# Altium integrated library Capacitor - Aluminium TH.IntLib: 4591 symbols (part 2 of 68)
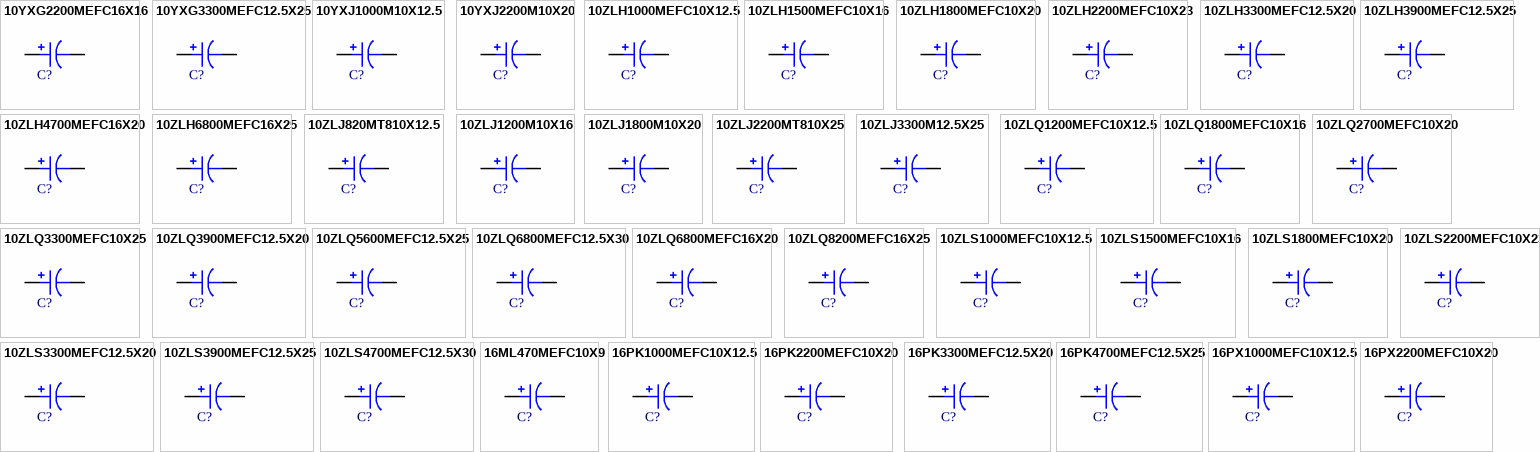
[diagram p115: symbols 10YXG2200MEFC16X16 to 16PX2200MEFC10X20]

## 10ZLS1500MEFC10X16
designator C?, comment 1500uF  (value not drawn)
CAP ALUM 1500UF 20% 10V RADIAL; Part Number: 10ZLS1500MEFC10X16; Manufacturer: Rubycon; TemperatureRange: -40C ~ 105C; Type: Polar; Ripple Current: 990mA; Impedance: 32 mOhm; Value: 1500uF; PartId: 25282; Supplier 1: Digi-Key; Supplier Part Number 1: 1189-2563-ND; ComponentLink1Description: Datasheet; ComponentLink1URL: http://www.rubycon.co.jp/en/catalog/e_pdfs/aluminum/e_zls.pdf; ComponentLink2Description: Digi-Key Listing; ComponentLink2URL: https://www.digikey.com/product-detail/en/rubycon/10ZLS1500MEFC10X16/1189-2563-ND/4977110; Tolerance: 20%; Voltage: 10V; Price: 0.62; Device Package: Radial, Can, 10mm
footprint CAP AL TH D10 L5 H17.5
pins: 1, 2

## 10ZLS1800MEFC10X20
designator C?, comment 1800uF  (value not drawn)
CAP ALUM 1800UF 20% 10V RADIAL; Part Number: 10ZLS1800MEFC10X20; Manufacturer: Rubycon; TemperatureRange: -40C ~ 105C; Type: Polar; Ripple Current: 1.176A; Impedance: 20 mOhm; Value: 1800uF; PartId: 25900; Supplier 1: Digi-Key; Supplier Part Number 1: 1189-2564-ND; ComponentLink1Description: Datasheet; ComponentLink1URL: http://www.rubycon.co.jp/en/catalog/e_pdfs/aluminum/e_zls.pdf; ComponentLink2Description: Digi-Key Listing; ComponentLink2URL: https://www.digikey.com/product-detail/en/rubycon/10ZLS1800MEFC10X20/1189-2564-ND/4977111; Tolerance: 20%; Voltage: 10V; Price: 0.68; Device Package: Radial, Can, 10mm
footprint CAP AL TH D10 L5 H22
pins: 1, 2

## 10ZLS2200MEFC10X23
designator C?, comment 2200uF  (value not drawn)
CAP ALUM 2200UF 20% 10V RADIAL; Part Number: 10ZLS2200MEFC10X23; Manufacturer: Rubycon; TemperatureRange: -40C ~ 105C; Type: Polar; Ripple Current: 1.575A; Impedance: 18 mOhm; Value: 2200uF; PartId: 26073; Supplier 1: Digi-Key; Supplier Part Number 1: 1189-2565-ND; ComponentLink1Description: Datasheet; ComponentLink1URL: http://www.rubycon.co.jp/en/catalog/e_pdfs/aluminum/e_zls.pdf; ComponentLink2Description: Digi-Key Listing; ComponentLink2URL: https://www.digikey.com/product-detail/en/rubycon/10ZLS2200MEFC10X23/1189-2565-ND/4977112; Tolerance: 20%; Voltage: 10V; Price: 0.7; Device Package: Radial, Can, 10mm
footprint CAP AL TH D10 L5 H30
pins: 1, 2

## 10ZLS3300MEFC12.5X20
designator C?, comment 3300uF  (value not drawn)
CAP ALUM 3300UF 20% 10V RADIAL; Part Number: 10ZLS3300MEFC12.5X20; Manufacturer: Rubycon; TemperatureRange: -40C ~ 105C; Type: Polar; Ripple Current: 1.736A; Impedance: 17 mOhm; Value: 3300uF; PartId: 23369; Supplier 1: Digi-Key; Supplier Part Number 1: 1189-2566-ND; ComponentLink1Description: Datasheet; ComponentLink1URL: http://www.rubycon.co.jp/en/catalog/e_pdfs/aluminum/e_zls.pdf; ComponentLink2Description: Digi-Key Listing; ComponentLink2URL: https://www.digikey.com/product-detail/en/rubycon/10ZLS3300MEFC12.5X20/1189-2566-ND/4977113; Tolerance: 20%; Voltage: 10V; Price: 0.89; Device Package: Radial, Can, 12.5mm
footprint CAP AL TH D12.5 L5 H22
pins: 1, 2

## 10ZLS3900MEFC12.5X25
designator C?, comment 3900uF  (value not drawn)
CAP ALUM 3900UF 20% 10V RADIAL; Part Number: 10ZLS3900MEFC12.5X25; Manufacturer: Rubycon; TemperatureRange: -40C ~ 105C; Type: Polar; Ripple Current: 2.03A; Impedance: 15 mOhm; Value: 3900uF; PartId: 23969; Supplier 1: Digi-Key; Supplier Part Number 1: 1189-2567-ND; ComponentLink1Description: Datasheet; ComponentLink1URL: http://www.rubycon.co.jp/en/catalog/e_pdfs/aluminum/e_zls.pdf; ComponentLink2Description: Digi-Key Listing; ComponentLink2URL: https://www.digikey.com/product-detail/en/rubycon/10ZLS3900MEFC12.5X25/1189-2567-ND/4977114; Tolerance: 20%; Voltage: 10V; Price: 1; Device Package: Radial, Can, 12.5mm
footprint CAP AL TH D12.5 L5 H27
pins: 1, 2

## 10ZLS4700MEFC12.5X30
designator C?, comment 4700uF  (value not drawn)
CAP ALUM 4700UF 20% 10V RADIAL; Part Number: 10ZLS4700MEFC12.5X30; Manufacturer: Rubycon; TemperatureRange: -40C ~ 105C; Type: Polar; Ripple Current: 2.415A; Impedance: 13 mOhm; Value: 4700uF; PartId: 24293; Supplier 1: Digi-Key; Supplier Part Number 1: 1189-2568-ND; ComponentLink1Description: Datasheet; ComponentLink1URL: http://www.rubycon.co.jp/en/catalog/e_pdfs/aluminum/e_zls.pdf; ComponentLink2Description: Digi-Key Listing; ComponentLink2URL: https://www.digikey.com/product-detail/en/rubycon/10ZLS4700MEFC12.5X30/1189-2568-ND/4977115; Tolerance: 20%; Voltage: 10V; Price: 1.13; Device Package: Radial, Can, 12.5mm
footprint CAP AL TH D12.5 L5 H35.5
pins: 1, 2

## 16ML470MEFC10X9
designator C?, comment 470uF  (value not drawn)
CAP ALUM 470UF 20% 16V RADIAL; Part Number: 16ML470MEFC10X9; Manufacturer: Rubycon; TemperatureRange: -40C ~ 105C; Type: Polar; Ripple Current: 460mA @ 120Hz; Value: 470uF; PartId: 24459; Supplier 1: Digi-Key; Supplier Part Number 1: 1189-3678-ND; ComponentLink1Description: Datasheet; ComponentLink1URL: http://www.rubycon.co.jp/en/catalog/e_pdfs/aluminum/e_ml.pdf; ComponentLink2Description: Digi-Key Listing; ComponentLink2URL: https://www.digikey.com/product-detail/en/rubycon/16ML470MEFC10X9/1189-3678-ND/3563506; Tolerance: 20%; Voltage: 16V; Price: 0.51; Device Package: Radial, Can, 10mm
footprint CAP AL TH D10 L5 H12.5
pins: 1, 2

## 16PK1000MEFC10X12.5
designator C?, comment 1000uF  (value not drawn)
CAP ALUM 1000UF 20% 16V RADIAL; Part Number: 16PK1000MEFC10X12.5; Manufacturer: Rubycon; TemperatureRange: -40C ~ 85C; Ripple Current: 720mA; Value: 1000uF; PartId: 24849; Supplier 1: Digi-Key; Supplier Part Number 1: 1189-1719-ND; ComponentLink1Description: Datasheet; ComponentLink1URL: http://www.rubycon.co.jp/en/catalog/e_pdfs/aluminum/e_pk.pdf; ComponentLink2Description: Digi-Key Listing; ComponentLink2URL: https://www.digikey.com/product-detail/en/rubycon/16PK1000MEFC10X12.5/1189-1719-ND/3563556; Tolerance: 20%; Voltage: 16V; Price: 0.47; Device Package: Radial, Can, 10mm
footprint CAP AL TH D10 L5 H14.5
pins: 1, 2

## 16PK2200MEFC10X20
designator C?, comment 2200uF  (value not drawn)
CAP ALUM 2200UF 20% 16V RADIAL; Part Number: 16PK2200MEFC10X20; Manufacturer: Rubycon; TemperatureRange: -40C ~ 85C; Ripple Current: 1.32A; Value: 2200uF; PartId: 25596; Supplier 1: Digi-Key; Supplier Part Number 1: 1189-1118-ND; ComponentLink1Description: Datasheet; ComponentLink1URL: http://www.rubycon.co.jp/en/catalog/e_pdfs/aluminum/e_pk.pdf; ComponentLink2Description: Digi-Key Listing; ComponentLink2URL: https://www.digikey.com/product-detail/en/rubycon/16PK2200MEFC10X20/1189-1118-ND/3134077; Tolerance: 20%; Voltage: 16V; Price: 0.68; Device Package: Radial, Can, 10mm
footprint CAP AL TH D10 L5 H22
pins: 1, 2

## 16PK3300MEFC12.5X20
designator C?, comment 3300uF  (value not drawn)
CAP ALUM 3300UF 20% 16V RADIAL; Part Number: 16PK3300MEFC12.5X20; Manufacturer: Rubycon; TemperatureRange: -40C ~ 85C; Ripple Current: 1.6A; Value: 3300uF; PartId: 23387; Supplier 1: Digi-Key; Supplier Part Number 1: 1189-1720-ND; ComponentLink1Description: Datasheet; ComponentLink1URL: http://www.rubycon.co.jp/en/catalog/e_pdfs/aluminum/e_pk.pdf; ComponentLink2Description: Digi-Key Listing; ComponentLink2URL: https://www.digikey.com/product-detail/en/rubycon/16PK3300MEFC12.5X20/1189-1720-ND/3564005; Tolerance: 20%; Voltage: 16V; Price: 0.94; Device Package: Radial, Can, 12.5mm
footprint CAP AL TH D12.5 L5 H22
pins: 1, 2

## 16PK4700MEFC12.5X25
designator C?, comment 4700uF  (value not drawn)
CAP ALUM 4700UF 20% 16V RADIAL; Part Number: 16PK4700MEFC12.5X25; Manufacturer: Rubycon; TemperatureRange: -40C ~ 85C; Ripple Current: 2.05A; Value: 4700uF; PartId: 23671; Supplier 1: Digi-Key; Supplier Part Number 1: 1189-1123-ND; ComponentLink1Description: Datasheet; ComponentLink1URL: http://www.rubycon.co.jp/en/catalog/e_pdfs/aluminum/e_pk.pdf; ComponentLink2Description: Digi-Key Listing; ComponentLink2URL: https://www.digikey.com/product-detail/en/rubycon/16PK4700MEFC12.5X25/1189-1123-ND/3134081; Tolerance: 20%; Voltage: 16V; Price: 0.99; Device Package: Radial, Can, 12.5mm
footprint CAP AL TH D12.5 L5 H26.5
pins: 1, 2

## 16PX1000MEFC10X12.5
designator C?, comment 1000uF  (value not drawn)
CAP ALUM 1000UF 20% 16V RADIAL; Part Number: 16PX1000MEFC10X12.5; Manufacturer: Rubycon; TemperatureRange: -55C ~ 105C; Type: Polar; Ripple Current: 640mA; Value: 1000uF; PartId: 24759; Supplier 1: Digi-Key; Supplier Part Number 1: 1189-2188-ND; ComponentLink1Description: Datasheet; ComponentLink1URL: http://www.rubycon.co.jp/en/catalog/e_pdfs/aluminum/e_px.pdf; ComponentLink2Description: Digi-Key Listing; ComponentLink2URL: https://www.digikey.com/product-detail/en/rubycon/16PX1000MEFC10X12.5/1189-2188-ND/3563561; Tolerance: 20%; Voltage: 16V; Price: 0.43; Device Package: Radial, Can, 10mm
footprint CAP AL TH D10 L5 H14.5
pins: 1, 2

## 16PX2200MEFC10X20
designator C?, comment 2200uF  (value not drawn)
CAP ALUM 2200UF 20% 16V RADIAL; Part Number: 16PX2200MEFC10X20; Manufacturer: Rubycon; TemperatureRange: -55C ~ 105C; Type: Polar; Ripple Current: 1.05A; Value: 2200uF; PartId: 25581; Supplier 1: Digi-Key; Supplier Part Number 1: 1189-1128-ND; ComponentLink1Description: Datasheet; ComponentLink1URL: http://www.rubycon.co.jp/en/catalog/e_pdfs/aluminum/e_px.pdf; ComponentLink2Description: Digi-Key Listing; ComponentLink2URL: https://www.digikey.com/product-detail/en/rubycon/16PX2200MEFC10X20/1189-1128-ND/3134086; Tolerance: 20%; Voltage: 16V; Price: 0.67; Device Package: Radial, Can, 10mm
footprint CAP AL TH D10 L5 H22
pins: 1, 2

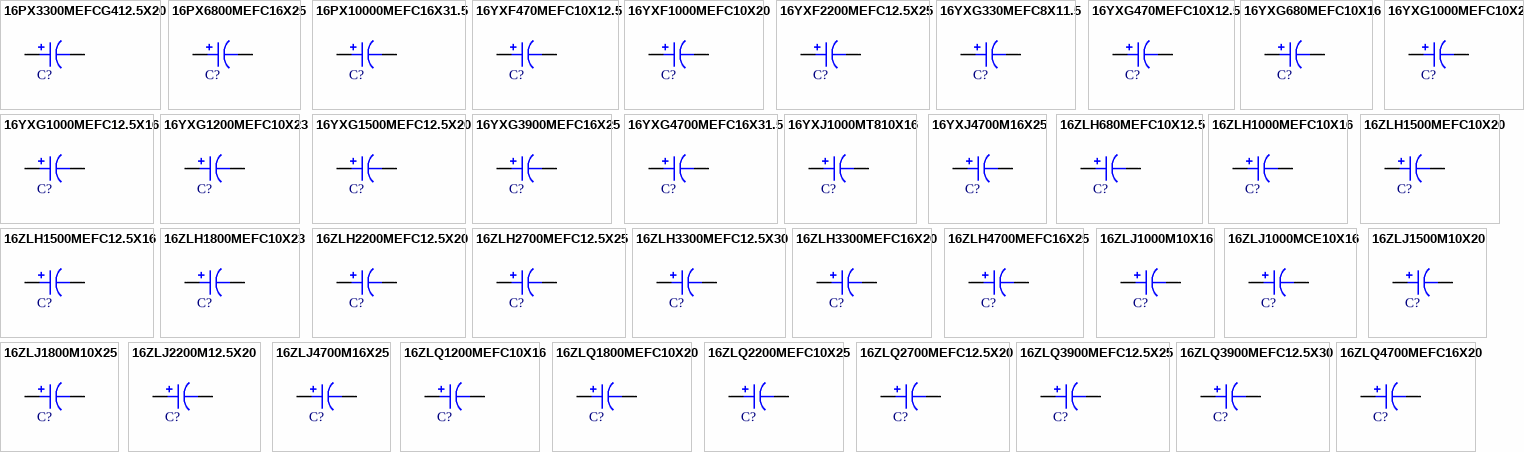
[diagram p2: symbols 16PX3300MEFCG412.5X20 to 16ZLQ4700MEFC16X20]

## 16PX3300MEFCG412.5X20
designator C?, comment 3300uF  (value not drawn)
CAP ALUM 3300UF 20% 16V RADIAL; Part Number: 16PX3300MEFCG412.5X20; Manufacturer: Rubycon; TemperatureRange: -55C ~ 105C; Type: Polar; Ripple Current: 1.3A; Value: 3300uF; PartId: 22975; Supplier 1: Digi-Key; Supplier Part Number 1: 1189-1534-1-ND; ComponentLink1Description: Datasheet; ComponentLink1URL: http://www.rubycon.co.jp/en/catalog/e_pdfs/aluminum/e_px.pdf; ComponentLink2Description: Digi-Key Listing; ComponentLink2URL: https://www.digikey.com/product-detail/en/rubycon/16PX3300MEFCG412.5X20/1189-1534-1-ND/3134490; Tolerance: 20%; Voltage: 16V; Price: 0; Device Package: Radial, Can, 12.5mm
footprint CAP AL TH D12.5 L5 H21.5
pins: 1, 2

## 16PX6800MEFC16X25
designator C?, comment 6800uF  (value not drawn)
CAP ALUM 6800UF 20% 16V RADIAL; Part Number: 16PX6800MEFC16X25; Manufacturer: Rubycon; TemperatureRange: -55C ~ 105C; Type: Polar; Ripple Current: 1.9A; Value: 6800uF; PartId: 26670; Supplier 1: Digi-Key; Supplier Part Number 1: 1189-1721-ND; ComponentLink1Description: Datasheet; ComponentLink1URL: http://www.rubycon.co.jp/en/catalog/e_pdfs/aluminum/e_px.pdf; ComponentLink2Description: Digi-Key Listing; ComponentLink2URL: https://www.digikey.com/product-detail/en/rubycon/16PX6800MEFC16X25/1189-1721-ND/3564437; Tolerance: 20%; Voltage: 16V; Price: 1.68; Device Package: Radial, Can, 16mm
footprint CAP AL TH D16 L7.5 H26.5
pins: 1, 2

## 16PX10000MEFC16X31.5
designator C?, comment 10000uF  (value not drawn)
CAP ALUM 10000UF 20% 16V RADIAL; Part Number: 16PX10000MEFC16X31.5; Manufacturer: Rubycon; TemperatureRange: -55C ~ 105C; Type: Polar; Ripple Current: 1.95A; Value: 10000uF; PartId: 27145; Supplier 1: Digi-Key; Supplier Part Number 1: 1189-1125-ND; ComponentLink1Description: Datasheet; ComponentLink1URL: http://www.rubycon.co.jp/en/catalog/e_pdfs/aluminum/e_px.pdf; ComponentLink2Description: Digi-Key Listing; ComponentLink2URL: https://www.digikey.com/product-detail/en/rubycon/16PX10000MEFC16X31.5/1189-1125-ND/3134083; Tolerance: 20%; Voltage: 16V; Price: 1.82; Device Package: Radial, Can, 16mm
footprint CAP AL TH D16 L7.5 H33.5
pins: 1, 2

## 16YXF470MEFC10X12.5
designator C?, comment 470uF  (value not drawn)
CAP ALUM 470UF 20% 16V RADIAL; Part Number: 16YXF470MEFC10X12.5; Manufacturer: Rubycon; TemperatureRange: -40C ~ 105C; Type: Polar; Ripple Current: 435mA; Impedance: 160 mOhm; Value: 470uF; PartId: 24800; Supplier 1: Digi-Key; Supplier Part Number 1: 1189-1886-ND; ComponentLink1Description: Datasheet; ComponentLink1URL: http://www.rubycon.co.jp/en/catalog/e_pdfs/aluminum/e_yxf.pdf; ComponentLink2Description: Digi-Key Listing; ComponentLink2URL: https://www.digikey.com/product-detail/en/rubycon/16YXF470MEFC10X12.5/1189-1886-ND/3563577; Tolerance: 20%; Voltage: 16V; Price: 0.45; Device Package: Radial, Can, 10mm
footprint CAP AL TH D10 L5 H14.5
pins: 1, 2

## 16YXF1000MEFC10X20
designator C?, comment 1000uF  (value not drawn)
CAP ALUM 1000UF 20% 16V RADIAL; Part Number: 16YXF1000MEFC10X20; Manufacturer: Rubycon; TemperatureRange: -40C ~ 105C; Type: Polar; Ripple Current: 787.5mA; Impedance: 78 mOhm; Value: 1000uF; PartId: 25870; Supplier 1: Digi-Key; Supplier Part Number 1: 1189-1896-ND; ComponentLink1Description: Datasheet; ComponentLink1URL: http://www.rubycon.co.jp/en/catalog/e_pdfs/aluminum/e_yxf.pdf; ComponentLink2Description: Digi-Key Listing; ComponentLink2URL: https://www.digikey.com/product-detail/en/rubycon/16YXF1000MEFC10X20/1189-1896-ND/3563785; Tolerance: 20%; Voltage: 16V; Price: 0.63; Device Package: Radial, Can, 10mm
footprint CAP AL TH D10 L5 H22
pins: 1, 2

## 16YXF2200MEFC12.5X25
designator C?, comment 2200uF  (value not drawn)
CAP ALUM 2200UF 20% 16V RADIAL; Part Number: 16YXF2200MEFC12.5X25; Manufacturer: Rubycon; TemperatureRange: -40C ~ 105C; Type: Polar; Ripple Current: 1.32A @ 120Hz; Impedance: 48 mOhm; Value: 2200uF; PartId: 23897; Supplier 1: Digi-Key; Supplier Part Number 1: 1189-3679-ND; ComponentLink1Description: Datasheet; ComponentLink1URL: http://www.rubycon.co.jp/en/catalog/e_pdfs/aluminum/e_yxf.pdf; ComponentLink2Description: Digi-Key Listing; ComponentLink2URL: https://www.digikey.com/product-detail/en/rubycon/16YXF2200MEFC12.5X25/1189-3679-ND/3564113; Tolerance: 20%; Voltage: 16V; Price: 0.88; Device Package: Radial, Can, 12.5mm
footprint CAP AL TH D12.5 L5 H27
pins: 1, 2

## 16YXG330MEFC8X11.5
designator C?, comment 330uF  (value not drawn)
CAP ALUM 330UF 20% 16V RADIAL; Part Number: 16YXG330MEFC8X11.5; Manufacturer: Rubycon; TemperatureRange: -40C ~ 105C; Type: Polar; Ripple Current: 352mA @ 120Hz; Impedance: 130 mOhm; Value: 330uF; PartId: 26206; Supplier 1: Digi-Key; Supplier Part Number 1: 1189-1724-ND; ComponentLink1Description: Datasheet; ComponentLink1URL: http://www.rubycon.co.jp/en/catalog/e_pdfs/aluminum/e_yxg.pdf; ComponentLink2Description: Digi-Key Listing; ComponentLink2URL: https://www.digikey.com/product-detail/en/rubycon/16YXG330MEFC8X11.5/1189-1724-ND/3563342; Tolerance: 20%; Voltage: 16V; Price: 0.38; Device Package: Radial, Can, 16mm
footprint CAP AL TH D16 L7.5 H16.5
pins: 1, 2

## 16YXG470MEFC10X12.5
designator C?, comment 470uF  (value not drawn)
CAP ALUM 470UF 20% 16V RADIAL; Part Number: 16YXG470MEFC10X12.5; Manufacturer: Rubycon; TemperatureRange: -40C ~ 105C; Type: Polar; Ripple Current: 475.8mA @ 120Hz; Impedance: 80 mOhm; Value: 470uF; PartId: 24926; Supplier 1: Digi-Key; Supplier Part Number 1: 1189-2192-ND; ComponentLink1Description: Datasheet; ComponentLink1URL: http://www.rubycon.co.jp/en/catalog/e_pdfs/aluminum/e_yxg.pdf; ComponentLink2Description: Digi-Key Listing; ComponentLink2URL: https://www.digikey.com/product-detail/en/rubycon/16YXG470MEFC10X12.5/1189-2192-ND/3563588; Tolerance: 20%; Voltage: 16V; Price: 0.5; Device Package: Radial, Can, 10mm
footprint CAP AL TH D10 L5 H14.5
pins: 1, 2

## 16YXG680MEFC10X16
designator C?, comment 680uF  (value not drawn)
CAP ALUM 680UF 20% 16V RADIAL; Part Number: 16YXG680MEFC10X16; Manufacturer: Rubycon; TemperatureRange: -40C ~ 105C; Type: Polar; Ripple Current: 665.5mA @ 120Hz; Impedance: 60 mOhm; Value: 680uF; PartId: 25250; Supplier 1: Digi-Key; Supplier Part Number 1: 1189-2193-ND; ComponentLink1Description: Datasheet; ComponentLink1URL: http://www.rubycon.co.jp/en/catalog/e_pdfs/aluminum/e_yxg.pdf; ComponentLink2Description: Digi-Key Listing; ComponentLink2URL: https://www.digikey.com/product-detail/en/rubycon/16YXG680MEFC10X16/1189-2193-ND/3563694; Tolerance: 20%; Voltage: 16V; Price: 0.57; Device Package: Radial, Can, 10mm
footprint CAP AL TH D10 L5 H17.5
pins: 1, 2

## 16YXG1000MEFC10X20
designator C?, comment 1000uF  (value not drawn)
CAP ALUM 1000UF 20% 16V RADIAL; Part Number: 16YXG1000MEFC10X20; Manufacturer: Rubycon; TemperatureRange: -40C ~ 105C; Type: Polar; Ripple Current: 840mA @ 120Hz; Impedance: 46 mOhm; Value: 1000uF; PartId: 25549; Supplier 1: Digi-Key; Supplier Part Number 1: 1189-1722-ND; ComponentLink1Description: Datasheet; ComponentLink1URL: http://www.rubycon.co.jp/en/catalog/e_pdfs/aluminum/e_yxg.pdf; ComponentLink2Description: Digi-Key Listing; ComponentLink2URL: https://www.digikey.com/product-detail/en/rubycon/16YXG1000MEFC10X20/1189-1722-ND/3563795; Tolerance: 20%; Voltage: 16V; Price: 0.63; Device Package: Radial, Can, 10mm
footprint CAP AL TH D10 L5 H22
pins: 1, 2

## 16YXG1000MEFC12.5X16
designator C?, comment 1000uF  (value not drawn)
CAP ALUM 1000UF 20% 16V RADIAL; Part Number: 16YXG1000MEFC12.5X16; Manufacturer: Rubycon; TemperatureRange: -40C ~ 105C; Type: Polar; Ripple Current: 870mA @ 120Hz; Impedance: 49 mOhm; Value: 1000uF; PartId: 22792; Supplier 1: Digi-Key; Supplier Part Number 1: 1189-1134-ND; ComponentLink1Description: Datasheet; ComponentLink1URL: http://www.rubycon.co.jp/en/catalog/e_pdfs/aluminum/e_yxg.pdf; ComponentLink2Description: Digi-Key Listing; ComponentLink2URL: https://www.digikey.com/product-detail/en/rubycon/16YXG1000MEFC12.5X16/1189-1134-ND/3134092; Tolerance: 20%; Voltage: 16V; Price: 0; Device Package: Radial, Can, 12.5mm
footprint CAP AL TH D12.5 L5 H17.5
pins: 1, 2

## 16YXG1200MEFC10X23
designator C?, comment 1200uF  (value not drawn)
CAP ALUM 1200UF 20% 16V RADIAL; Part Number: 16YXG1200MEFC10X23; Manufacturer: Rubycon; TemperatureRange: -40C ~ 105C; Type: Polar; Ripple Current: 990mA @ 120Hz; Impedance: 42 mOhm; Value: 1200uF; PartId: 26097; Supplier 1: Digi-Key; Supplier Part Number 1: 1189-1136-ND; ComponentLink1Description: Datasheet; ComponentLink1URL: http://www.rubycon.co.jp/en/catalog/e_pdfs/aluminum/e_yxg.pdf; ComponentLink2Description: Digi-Key Listing; ComponentLink2URL: https://www.digikey.com/product-detail/en/rubycon/16YXG1200MEFC10X23/1189-1136-ND/3134094; Tolerance: 20%; Voltage: 16V; Price: 0.74; Device Package: Radial, Can, 10mm
footprint CAP AL TH D10 L5 H30
pins: 1, 2

## 16YXG1500MEFC12.5X20
designator C?, comment 1500uF  (value not drawn)
CAP ALUM 1500UF 20% 16V RADIAL; Part Number: 16YXG1500MEFC12.5X20; Manufacturer: Rubycon; TemperatureRange: -40C ~ 105C; Type: Polar; Ripple Current: 1.14A @ 120Hz; Impedance: 35 mOhm; Value: 1500uF; PartId: 23335; Supplier 1: Digi-Key; Supplier Part Number 1: 1189-1723-ND; ComponentLink1Description: Datasheet; ComponentLink1URL: http://www.rubycon.co.jp/en/catalog/e_pdfs/aluminum/e_yxg.pdf; ComponentLink2Description: Digi-Key Listing; ComponentLink2URL: https://www.digikey.com/product-detail/en/rubycon/16YXG1500MEFC12.5X20/1189-1723-ND/3564035; Tolerance: 20%; Voltage: 16V; Price: 0.83; Device Package: Radial, Can, 12.5mm
footprint CAP AL TH D12.5 L5 H22
pins: 1, 2

## 16YXG3900MEFC16X25
designator C?, comment 3900uF  (value not drawn)
CAP ALUM 3900UF 20% 16V RADIAL; Part Number: 16YXG3900MEFC16X25; Manufacturer: Rubycon; TemperatureRange: -40C ~ 105C; Type: Polar; Ripple Current: 2.051A @ 120Hz; Impedance: 21 mOhm; Value: 3900uF; PartId: 26890; Supplier 1: Digi-Key; Supplier Part Number 1: 1189-1141-ND; ComponentLink1Description: Datasheet; ComponentLink1URL: http://www.rubycon.co.jp/en/catalog/e_pdfs/aluminum/e_yxg.pdf; ComponentLink2Description: Digi-Key Listing; ComponentLink2URL: https://www.digikey.com/product-detail/en/rubycon/16YXG3900MEFC16X25/1189-1141-ND/3134099; Tolerance: 20%; Voltage: 16V; Price: 1.39; Device Package: Radial, Can, 16mm
footprint CAP AL TH D16 L7.5 H27
pins: 1, 2

## 16YXG4700MEFC16X31.5
designator C?, comment 4700uF  (value not drawn)
CAP ALUM 4700UF 20% 16V RADIAL; Part Number: 16YXG4700MEFC16X31.5; Manufacturer: Rubycon; TemperatureRange: -40C ~ 105C; Type: Polar; Ripple Current: 2.415A @ 120Hz; Impedance: 17 mOhm; Value: 4700uF; PartId: 27146; Supplier 1: Digi-Key; Supplier Part Number 1: 1189-1143-ND; ComponentLink1Description: Datasheet; ComponentLink1URL: http://www.rubycon.co.jp/en/catalog/e_pdfs/aluminum/e_yxg.pdf; ComponentLink2Description: Digi-Key Listing; ComponentLink2URL: https://www.digikey.com/product-detail/en/rubycon/16YXG4700MEFC16X31.5/1189-1143-ND/3134101; Tolerance: 20%; Voltage: 16V; Price: 1.82; Device Package: Radial, Can, 16mm
footprint CAP AL TH D16 L7.5 H33.5
pins: 1, 2

## 16YXJ1000MT810X16
designator C?, comment 1000uF  (value not drawn)
CAP ALUM 1000UF 20% 16V RADIAL; Part Number: 16YXJ1000MT810X16; Manufacturer: Rubycon; TemperatureRange: -40C ~ 105C; Type: Polar; Ripple Current: 1.21A; Impedance: 62 mOhm; Value: 1000uF; PartId: 24994; Supplier 1: Digi-Key; Supplier Part Number 1: 1189-1545-3-ND; ComponentLink1Description: Datasheet; ComponentLink1URL: http://www.rubycon.co.jp/en/catalog/e_pdfs/aluminum/e_yxj.pdf; ComponentLink2Description: Digi-Key Listing; ComponentLink2URL: https://www.digikey.com/product-detail/en/rubycon/16YXJ1000MT810X16/1189-1545-3-ND/3134825; Tolerance: 20%; Voltage: 16V; Price: 0.1414; Device Package: Radial, Can, 10mm
footprint CAP AL TH D10 L5 H17.5
pins: 1, 2

## 16YXJ4700M16X25
designator C?, comment 4700uF  (value not drawn)
CAP ALUM 4700UF 20% 16V RADIAL; Part Number: 16YXJ4700M16X25; Manufacturer: Rubycon; TemperatureRange: -40C ~ 105C; Type: Polar; Ripple Current: 2.93A; Impedance: 21 mOhm; Value: 4700uF; PartId: 26851; Supplier 1: Digi-Key; Supplier Part Number 1: 1189-1145-ND; ComponentLink1Description: Datasheet; ComponentLink1URL: http://www.rubycon.co.jp/en/catalog/e_pdfs/aluminum/e_yxj.pdf; ComponentLink2Description: Digi-Key Listing; ComponentLink2URL: https://www.digikey.com/product-detail/en/rubycon/16YXJ4700M16X25/1189-1145-ND/3134103; Tolerance: 20%; Voltage: 16V; Price: 1.05; Device Package: Radial, Can, 16mm
footprint CAP AL TH D16 L7.5 H27
pins: 1, 2

## 16ZLH680MEFC10X12.5
designator C?, comment 680uF  (value not drawn)
CAP ALUM 680UF 20% 16V RADIAL; Part Number: 16ZLH680MEFC10X12.5; Manufacturer: Rubycon; TemperatureRange: -40C ~ 105C; Type: Polar; Ripple Current: 731.5mA; Impedance: 39 mOhm; Value: 680uF; PartId: 24724; Supplier 1: Digi-Key; Supplier Part Number 1: 1189-1150-ND; ComponentLink1Description: Datasheet; ComponentLink1URL: http://www.rubycon.co.jp/en/catalog/e_pdfs/aluminum/e_zlh.pdf; ComponentLink2Description: Digi-Key Listing; ComponentLink2URL: https://www.digikey.com/product-detail/en/rubycon/16ZLH680MEFC10X12.5/1189-1150-ND/3134108; Tolerance: 20%; Voltage: 16V; Price: 0.41; Device Package: Radial, Can, 10mm
footprint CAP AL TH D10 L5 H14.5
pins: 1, 2

## 16ZLH1000MEFC10X16
designator C?, comment 1000uF  (value not drawn)
CAP ALUM 1000UF 20% 16V RADIAL; Part Number: 16ZLH1000MEFC10X16; Manufacturer: Rubycon; TemperatureRange: -40C ~ 105C; Type: Polar; Ripple Current: 1.056A; Impedance: 28 mOhm; Value: 1000uF; PartId: 25197; Supplier 1: Digi-Key; Supplier Part Number 1: 1189-1147-ND; ComponentLink1Description: Datasheet; ComponentLink1URL: http://www.rubycon.co.jp/en/catalog/e_pdfs/aluminum/e_zlh.pdf; ComponentLink2Description: Digi-Key Listing; ComponentLink2URL: https://www.digikey.com/product-detail/en/rubycon/16ZLH1000MEFC10X16/1189-1147-ND/3134105; Tolerance: 20%; Voltage: 16V; Price: 0.5; Device Package: Radial, Can, 10mm
footprint CAP AL TH D10 L5 H17.5
pins: 1, 2

## 16ZLH1500MEFC10X20
designator C?, comment 1500uF  (value not drawn)
CAP ALUM 1500UF 20% 16V RADIAL; Part Number: 16ZLH1500MEFC10X20; Manufacturer: Rubycon; TemperatureRange: -40C ~ 105C; Type: Polar; Ripple Current: 1.176A; Impedance: 20 mOhm; Value: 1500uF; PartId: 25891; Supplier 1: Digi-Key; Supplier Part Number 1: 1189-1881-ND; ComponentLink1Description: Datasheet; ComponentLink1URL: http://www.rubycon.co.jp/en/catalog/e_pdfs/aluminum/e_zlh.pdf; ComponentLink2Description: Digi-Key Listing; ComponentLink2URL: https://www.digikey.com/product-detail/en/rubycon/16ZLH1500MEFC10X20/1189-1881-ND/3563823; Tolerance: 20%; Voltage: 16V; Price: 0.66; Device Package: Radial, Can, 10mm
footprint CAP AL TH D10 L5 H22
pins: 1, 2

## 16ZLH1500MEFC12.5X16
designator C?, comment 1500uF  (value not drawn)
CAP ALUM 1500UF 20% 16V RADIAL; Part Number: 16ZLH1500MEFC12.5X16; Manufacturer: Rubycon; TemperatureRange: -40C ~ 105C; Type: Polar; Value: 1500uF; PartId: 22829; Supplier 1: Digi-Key; Supplier Part Number 1: 1189-1149-ND; ComponentLink1Description: Datasheet; ComponentLink1URL: http://www.rubycon.co.jp/en/catalog/e_pdfs/aluminum/e_zlh.pdf; ComponentLink2Description: Digi-Key Listing; ComponentLink2URL: https://www.digikey.com/product-detail/en/rubycon/16ZLH1500MEFC12.5X16/1189-1149-ND/3134107; Tolerance: 20%; Voltage: 16V; Price: 0; Device Package: Radial, Can, 12.5mm
footprint CAP AL TH D12.5 L5 H17.5
pins: 1, 2

## 16ZLH1800MEFC10X23
designator C?, comment 1800uF  (value not drawn)
CAP ALUM 1800UF 20% 16V RADIAL; Part Number: 16ZLH1800MEFC10X23; Manufacturer: Rubycon; TemperatureRange: -40C ~ 105C; Type: Polar; Ripple Current: 1.35A; Impedance: 18 mOhm; Value: 1800uF; PartId: 26137; Supplier 1: Digi-Key; Supplier Part Number 1: 1189-2197-ND; ComponentLink1Description: Datasheet; ComponentLink1URL: http://www.rubycon.co.jp/en/catalog/e_pdfs/aluminum/e_zlh.pdf; ComponentLink2Description: Digi-Key Listing; ComponentLink2URL: https://www.digikey.com/product-detail/en/rubycon/16ZLH1800MEFC10X23/1189-2197-ND/3563867; Tolerance: 20%; Voltage: 16V; Price: 0.82; Device Package: Radial, Can, 10mm
footprint CAP AL TH D10 L5 H30
pins: 1, 2

## 16ZLH2200MEFC12.5X20
designator C?, comment 2200uF  (value not drawn)
CAP ALUM 2200UF 20% 16V RADIAL; Part Number: 16ZLH2200MEFC12.5X20; Manufacturer: Rubycon; TemperatureRange: -40C ~ 105C; Type: Polar; Ripple Current: 1.736A; Impedance: 17 mOhm; Value: 2200uF; PartId: 23400; Supplier 1: Digi-Key; Supplier Part Number 1: 1189-2933-ND; ComponentLink1Description: Datasheet; ComponentLink1URL: http://www.rubycon.co.jp/en/catalog/e_pdfs/aluminum/e_zlh.pdf; ComponentLink2Description: Digi-Key Listing; ComponentLink2URL: https://www.digikey.com/product-detail/en/rubycon/16ZLH2200MEFC12.5X20/1189-2933-ND/3564064; Tolerance: 20%; Voltage: 16V; Price: 0.97; Device Package: Radial, Can, 12.5mm
footprint CAP AL TH D12.5 L5 H22
pins: 1, 2

## 16ZLH2700MEFC12.5X25
designator C?, comment 2700uF  (value not drawn)
CAP ALUM 2700UF 20% 16V RADIAL; Part Number: 16ZLH2700MEFC12.5X25; Manufacturer: Rubycon; TemperatureRange: -40C ~ 105C; Type: Polar; Ripple Current: 2.03A; Impedance: 15 mOhm; Value: 2700uF; PartId: 23978; Supplier 1: Digi-Key; Supplier Part Number 1: 1189-2957-ND; ComponentLink1Description: Datasheet; ComponentLink1URL: http://www.rubycon.co.jp/en/catalog/e_pdfs/aluminum/e_zlh.pdf; ComponentLink2Description: Digi-Key Listing; ComponentLink2URL: https://www.digikey.com/product-detail/en/rubycon/16ZLH2700MEFC12.5X25/1189-2957-ND/3564149; Tolerance: 20%; Voltage: 16V; Price: 1.02; Device Package: Radial, Can, 12.5mm
footprint CAP AL TH D12.5 L5 H27
pins: 1, 2

## 16ZLH3300MEFC12.5X30
designator C?, comment 3300uF  (value not drawn)
CAP ALUM 3300UF 20% 16V RADIAL; Part Number: 16ZLH3300MEFC12.5X30; Manufacturer: Rubycon; TemperatureRange: -40C ~ 105C; Type: Polar; Ripple Current: 2.415A; Impedance: 13 mOhm; Value: 3300uF; PartId: 24353; Supplier 1: Digi-Key; Supplier Part Number 1: 1189-2198-ND; ComponentLink1Description: Datasheet; ComponentLink1URL: http://www.rubycon.co.jp/en/catalog/e_pdfs/aluminum/e_zlh.pdf; ComponentLink2Description: Digi-Key Listing; ComponentLink2URL: https://www.digikey.com/product-detail/en/rubycon/16ZLH3300MEFC12.5X30/1189-2198-ND/3564204; Tolerance: 20%; Voltage: 16V; Price: 1.41; Device Package: Radial, Can, 12.5mm
footprint CAP AL TH D12.5 L5 H35.5
pins: 1, 2

## 16ZLH3300MEFC16X20
designator C?, comment 3300uF  (value not drawn)
CAP ALUM 3300UF 20% 16V RADIAL; Part Number: 16ZLH3300MEFC16X20; Manufacturer: Rubycon; TemperatureRange: -40C ~ 105C; Type: Polar; Ripple Current: 2.275A; Impedance: 15 mOhm; Value: 3300uF; PartId: 26433; Supplier 1: Digi-Key; Supplier Part Number 1: 1189-2958-ND; ComponentLink1Description: Datasheet; ComponentLink1URL: http://www.rubycon.co.jp/en/catalog/e_pdfs/aluminum/e_zlh.pdf; ComponentLink2Description: Digi-Key Listing; ComponentLink2URL: https://www.digikey.com/product-detail/en/rubycon/16ZLH3300MEFC16X20/1189-2958-ND/3564407; Tolerance: 20%; Voltage: 16V; Price: 1.36; Device Package: Radial, Can, 16mm
footprint CAP AL TH D16 L7.5 H22
pins: 1, 2

## 16ZLH4700MEFC16X25
designator C?, comment 4700uF  (value not drawn)
CAP ALUM 4700UF 20% 16V RADIAL; Part Number: 16ZLH4700MEFC16X25; Manufacturer: Rubycon; TemperatureRange: -40C ~ 105C; Type: Polar; Ripple Current: 2.541A; Impedance: 13 mOhm; Value: 4700uF; PartId: 26901; Supplier 1: Digi-Key; Supplier Part Number 1: 1189-2959-ND; ComponentLink1Description: Datasheet; ComponentLink1URL: http://www.rubycon.co.jp/en/catalog/e_pdfs/aluminum/e_zlh.pdf; ComponentLink2Description: Digi-Key Listing; ComponentLink2URL: https://www.digikey.com/product-detail/en/rubycon/16ZLH4700MEFC16X25/1189-2959-ND/3564491; Tolerance: 20%; Voltage: 16V; Price: 1.54; Device Package: Radial, Can, 16mm
footprint CAP AL TH D16 L7.5 H27
pins: 1, 2

## 16ZLJ1000M10X16
designator C?, comment 1000uF  (value not drawn)
CAP ALUM 1000UF 20% 16V RADIAL; Part Number: 16ZLJ1000M10X16; Manufacturer: Rubycon; TemperatureRange: -40C ~ 105C; Type: Polar; Ripple Current: 1.2A @ 120Hz; Impedance: 38 mOhm; Value: 1000uF; PartId: 25375; Supplier 1: Digi-Key; Supplier Part Number 1: 1189-2200-ND; ComponentLink1Description: Datasheet; ComponentLink1URL: http://www.rubycon.co.jp/en/catalog/e_pdfs/aluminum/e_zlj.pdf; ComponentLink2Description: Digi-Key Listing; ComponentLink2URL: https://www.digikey.com/product-detail/en/rubycon/16ZLJ1000M10X16/1189-2200-ND/3563730; Tolerance: 20%; Voltage: 16V; Price: 0.73; Device Package: Radial, Can, 10mm
footprint CAP AL TH D10 L5 H17.5
pins: 1, 2

## 16ZLJ1000MCE10X16
designator C?, comment 1000uF  (value not drawn)
CAP ALUM 1000UF 20% 16V RADIAL; Part Number: 16ZLJ1000MCE10X16; Manufacturer: Rubycon; TemperatureRange: -40C ~ 105C; Type: Polar; Ripple Current: 1.2A @ 120Hz; Impedance: 38 mOhm; Value: 1000uF; PartId: 25254; Supplier 1: Digi-Key; Supplier Part Number 1: 1189-1151-ND; ComponentLink1Description: Datasheet; ComponentLink1URL: http://www.rubycon.co.jp/en/catalog/e_pdfs/aluminum/e_zlj.pdf; ComponentLink2Description: Digi-Key Listing; ComponentLink2URL: https://www.digikey.com/product-detail/en/rubycon/16ZLJ1000MCE10X16/1189-1151-ND/3134109; Tolerance: 20%; Voltage: 16V; Price: 0.58; Device Package: Radial, Can, 10mm
footprint CAP AL TH D10 L5 H17.5
pins: 1, 2

## 16ZLJ1500M10X20
designator C?, comment 1500uF  (value not drawn)
CAP ALUM 1500UF 20% 16V RADIAL; Part Number: 16ZLJ1500M10X20; Manufacturer: Rubycon; TemperatureRange: -40C ~ 105C; Type: Polar; Ripple Current: 1.5A @ 120Hz; Impedance: 28 mOhm; Value: 1500uF; PartId: 25863; Supplier 1: Digi-Key; Supplier Part Number 1: 1189-1152-ND; ComponentLink1Description: Datasheet; ComponentLink1URL: http://www.rubycon.co.jp/en/catalog/e_pdfs/aluminum/e_zlj.pdf; ComponentLink2Description: Digi-Key Listing; ComponentLink2URL: https://www.digikey.com/product-detail/en/rubycon/16ZLJ1500M10X20/1189-1152-ND/3134110; Tolerance: 20%; Voltage: 16V; Price: 0.62; Device Package: Radial, Can, 10mm
footprint CAP AL TH D10 L5 H22
pins: 1, 2

## 16ZLJ1800M10X25
designator C?, comment 1800uF  (value not drawn)
CAP ALUM 1800UF 20% 16V RADIAL; Part Number: 16ZLJ1800M10X25; Manufacturer: Rubycon; TemperatureRange: -40C ~ 105C; Type: Polar; Ripple Current: 1.74A @ 120Hz; Impedance: 24 mOhm; Value: 1800uF; PartId: 26151; Supplier 1: Digi-Key; Supplier Part Number 1: 1189-2202-ND; ComponentLink1Description: Datasheet; ComponentLink1URL: http://www.rubycon.co.jp/en/catalog/e_pdfs/aluminum/e_zlj.pdf; ComponentLink2Description: Digi-Key Listing; ComponentLink2URL: https://www.digikey.com/product-detail/en/rubycon/16ZLJ1800M10X25/1189-2202-ND/3563879; Tolerance: 20%; Voltage: 16V; Price: 0.85; Device Package: Radial, Can, 10mm
footprint CAP AL TH D10 L5 H30
pins: 1, 2

## 16ZLJ2200M12.5X20
designator C?, comment 2200uF  (value not drawn)
CAP ALUM 2200UF 20% 16V RADIAL; Part Number: 16ZLJ2200M12.5X20; Manufacturer: Rubycon; TemperatureRange: -40C ~ 105C; Type: Polar; Ripple Current: 1.82A @ 120Hz; Impedance: 25 mOhm; Value: 2200uF; PartId: 23455; Supplier 1: Digi-Key; Supplier Part Number 1: 1189-1153-ND; ComponentLink1Description: Datasheet; ComponentLink1URL: http://www.rubycon.co.jp/en/catalog/e_pdfs/aluminum/e_zlj.pdf; ComponentLink2Description: Digi-Key Listing; ComponentLink2URL: https://www.digikey.com/product-detail/en/rubycon/16ZLJ2200M12.5X20/1189-1153-ND/3134111; Tolerance: 20%; Voltage: 16V; Price: 1.05; Device Package: Radial, Can, 12.5mm
footprint CAP AL TH D12.5 L5 H22
pins: 1, 2

## 16ZLJ4700M16X25
designator C?, comment 4700uF  (value not drawn)
CAP ALUM 4700UF 20% 16V RADIAL; Part Number: 16ZLJ4700M16X25; Manufacturer: Rubycon; TemperatureRange: -40C ~ 105C; Type: Polar; Ripple Current: 2.667A @ 120Hz; Impedance: 17 mOhm; Value: 4700uF; PartId: 26924; Supplier 1: Digi-Key; Supplier Part Number 1: 1189-2204-ND; ComponentLink1Description: Datasheet; ComponentLink1URL: http://www.rubycon.co.jp/en/catalog/e_pdfs/aluminum/e_zlj.pdf; ComponentLink2Description: Digi-Key Listing; ComponentLink2URL: https://www.digikey.com/product-detail/en/rubycon/16ZLJ4700M16X25/1189-2204-ND/3564498; Tolerance: 20%; Voltage: 16V; Price: 1.74; Device Package: Radial, Can, 16mm
footprint CAP AL TH D16 L7.5 H27
pins: 1, 2

## 16ZLQ1200MEFC10X16
designator C?, comment 1200uF  (value not drawn)
CAP ALUM 1200UF 20% 16V T/H; Part Number: 16ZLQ1200MEFC10X16; Manufacturer: Rubycon; TemperatureRange: -40C ~ 105C; Type: Polar; Ripple Current: 1.158A @ 120Hz; Impedance: 25 mOhm; Value: 1200uF; PartId: 25445; Supplier 1: Digi-Key; Supplier Part Number 1: 1189-3632-ND; ComponentLink1Description: Datasheet; ComponentLink1URL: http://www.rubycon.co.jp/en/catalog/e_pdfs/aluminum/e_ZLQ.pdf; ComponentLink2Description: Digi-Key Listing; ComponentLink2URL: https://www.digikey.com/product-detail/en/rubycon/16ZLQ1200MEFC10X16/1189-3632-ND/6049869; Tolerance: 20%; Voltage: 16V; Price: 0.66; Device Package: Radial, Can, 10mm
footprint CAP AL TH D10 L5 H17.5
pins: 1, 2

## 16ZLQ1800MEFC10X20
designator C?, comment 1800uF  (value not drawn)
CAP ALUM 1800UF 20% 16V T/H; Part Number: 16ZLQ1800MEFC10X20; Manufacturer: Rubycon; TemperatureRange: -40C ~ 105C; Type: Polar; Ripple Current: 1.278A @ 120Hz; Impedance: 18 mOhm; Value: 1800uF; PartId: 25902; Supplier 1: Digi-Key; Supplier Part Number 1: 1189-3633-ND; ComponentLink1Description: Datasheet; ComponentLink1URL: http://www.rubycon.co.jp/en/catalog/e_pdfs/aluminum/e_ZLQ.pdf; ComponentLink2Description: Digi-Key Listing; ComponentLink2URL: https://www.digikey.com/product-detail/en/rubycon/16ZLQ1800MEFC10X20/1189-3633-ND/6049870; Tolerance: 20%; Voltage: 16V; Price: 0.68; Device Package: Radial, Can, 10mm
footprint CAP AL TH D10 L5 H22
pins: 1, 2

## 16ZLQ2200MEFC10X25
designator C?, comment 2200uF  (value not drawn)
CAP ALUM 2200UF 20% 16V T/H; Part Number: 16ZLQ2200MEFC10X25; Manufacturer: Rubycon; TemperatureRange: -40C ~ 105C; Type: Polar; Ripple Current: 1.75A @ 120Hz; Impedance: 15 mOhm; Value: 2200uF; PartId: 26153; Supplier 1: Digi-Key; Supplier Part Number 1: 1189-3634-ND; ComponentLink1Description: Datasheet; ComponentLink1URL: http://www.rubycon.co.jp/en/catalog/e_pdfs/aluminum/e_ZLQ.pdf; ComponentLink2Description: Digi-Key Listing; ComponentLink2URL: https://www.digikey.com/product-detail/en/rubycon/16ZLQ2200MEFC10X25/1189-3634-ND/6050003; Tolerance: 20%; Voltage: 16V; Price: 0.85; Device Package: Radial, Can, 10mm
footprint CAP AL TH D10 L5 H30
pins: 1, 2

## 16ZLQ2700MEFC12.5X20
designator C?, comment 2700uF  (value not drawn)
CAP ALUM 2700UF 20% 16V T/H; Part Number: 16ZLQ2700MEFC12.5X20; Manufacturer: Rubycon; TemperatureRange: -40C ~ 105C; Type: Polar; Ripple Current: 1.883A @ 120Hz; Impedance: 16 mOhm; Value: 2700uF; PartId: 23412; Supplier 1: Digi-Key; Supplier Part Number 1: 1189-3635-ND; ComponentLink1Description: Datasheet; ComponentLink1URL: http://www.rubycon.co.jp/en/catalog/e_pdfs/aluminum/e_ZLQ.pdf; ComponentLink2Description: Digi-Key Listing; ComponentLink2URL: https://www.digikey.com/product-detail/en/rubycon/16ZLQ2700MEFC12.5X20/1189-3635-ND/6050004; Tolerance: 20%; Voltage: 16V; Price: 0.99; Device Package: Radial, Can, 12.5mm
footprint CAP AL TH D12.5 L5 H22
pins: 1, 2

## 16ZLQ3900MEFC12.5X25
designator C?, comment 3900uF  (value not drawn)
CAP ALUM 3900UF 20% 16V T/H; Part Number: 16ZLQ3900MEFC12.5X25; Manufacturer: Rubycon; TemperatureRange: -40C ~ 105C; Type: Polar; Ripple Current: 2.198A @ 120Hz; Impedance: 13 mOhm; Value: 3900uF; PartId: 24052; Supplier 1: Digi-Key; Supplier Part Number 1: 1189-3637-ND; ComponentLink1Description: Datasheet; ComponentLink1URL: http://www.rubycon.co.jp/en/catalog/e_pdfs/aluminum/e_ZLQ.pdf; ComponentLink2Description: Digi-Key Listing; ComponentLink2URL: https://www.digikey.com/product-detail/en/rubycon/16ZLQ3900MEFC12.5X25/1189-3637-ND/6050006; Tolerance: 20%; Voltage: 16V; Price: 1.15; Device Package: Radial, Can, 12.5mm
footprint CAP AL TH D12.5 L5 H27
pins: 1, 2

## 16ZLQ3900MEFC12.5X30
designator C?, comment 3900uF  (value not drawn)
CAP ALUM 3900UF 20% 16V T/H; Part Number: 16ZLQ3900MEFC12.5X30; Manufacturer: Rubycon; TemperatureRange: -40C ~ 105C; Type: Polar; Ripple Current: 2.576A @ 120Hz; Impedance: 12 mOhm; Value: 3900uF; PartId: 24303; Supplier 1: Digi-Key; Supplier Part Number 1: 1189-3636-ND; ComponentLink1Description: Datasheet; ComponentLink1URL: http://www.rubycon.co.jp/en/catalog/e_pdfs/aluminum/e_ZLQ.pdf; ComponentLink2Description: Digi-Key Listing; ComponentLink2URL: https://www.digikey.com/product-detail/en/rubycon/16ZLQ3900MEFC12.5X30/1189-3636-ND/6050005; Tolerance: 20%; Voltage: 16V; Price: 1.2; Device Package: Radial, Can, 12.5mm
footprint CAP AL TH D12.5 L5 H35.5
pins: 1, 2

## 16ZLQ4700MEFC16X20
designator C?, comment 4700uF  (value not drawn)
CAP ALUM 4700UF 20% 16V T/H; Part Number: 16ZLQ4700MEFC16X20; Manufacturer: Rubycon; TemperatureRange: -40C ~ 105C; Type: Polar; Ripple Current: 2.45A @ 120Hz; Impedance: 14 mOhm; Value: 4700uF; PartId: 26451; Supplier 1: Digi-Key; Supplier Part Number 1: 1189-3638-ND; ComponentLink1Description: Datasheet; ComponentLink1URL: http://www.rubycon.co.jp/en/catalog/e_pdfs/aluminum/e_ZLQ.pdf; ComponentLink2Description: Digi-Key Listing; ComponentLink2URL: https://www.digikey.com/product-detail/en/rubycon/16ZLQ4700MEFC16X20/1189-3638-ND/6050187; Tolerance: 20%; Voltage: 16V; Price: 1.49; Device Package: Radial, Can, 16mm
footprint CAP AL TH D16 L7.5 H22
pins: 1, 2

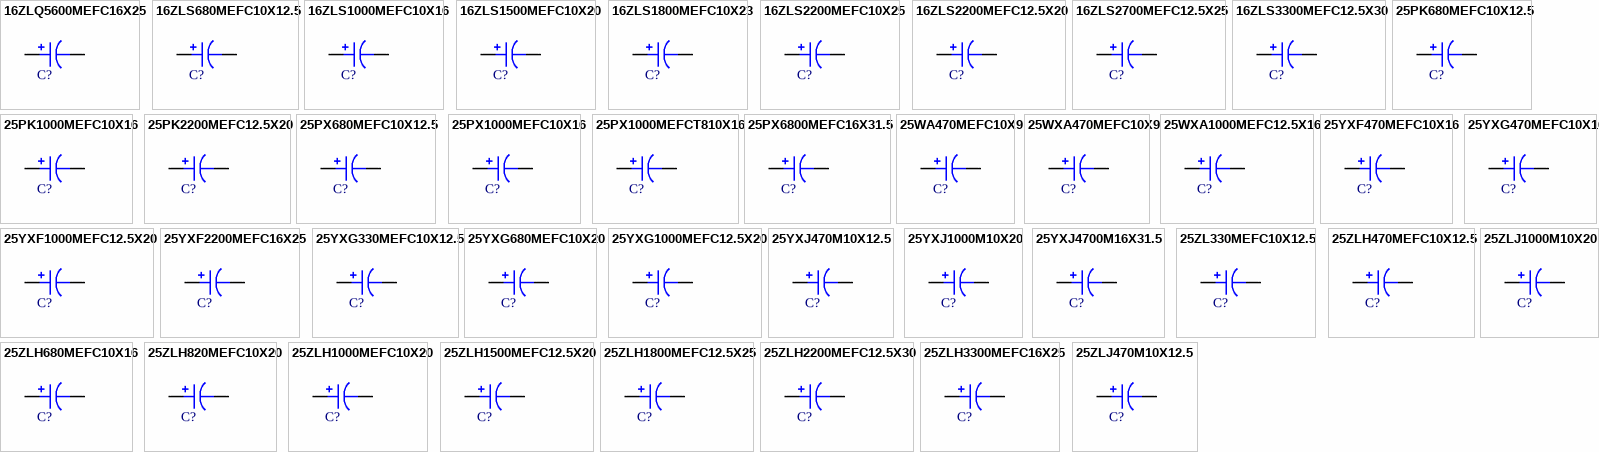
[diagram p3: symbols 16ZLQ5600MEFC16X25 to 25ZLJ1000M10X20]

## 16ZLQ5600MEFC16X25
designator C?, comment 5600uF  (value not drawn)
CAP ALUM 5600UF 20% 16V T/H; Part Number: 16ZLQ5600MEFC16X25; Manufacturer: Rubycon; TemperatureRange: -40C ~ 105C; Type: Polar; Ripple Current: 2.716A @ 120Hz; Impedance: 11 mOhm; Value: 5600uF; PartId: 26903; Supplier 1: Digi-Key; Supplier Part Number 1: 1189-3640-ND; ComponentLink1Description: Datasheet; ComponentLink1URL: http://www.rubycon.co.jp/en/catalog/e_pdfs/aluminum/e_ZLQ.pdf; ComponentLink2Description: Digi-Key Listing; ComponentLink2URL: https://www.digikey.com/product-detail/en/rubycon/16ZLQ5600MEFC16X25/1189-3640-ND/6050188; Tolerance: 20%; Voltage: 16V; Price: 1.56; Device Package: Radial, Can, 16mm
footprint CAP AL TH D16 L7.5 H27
pins: 1, 2

## 16ZLS680MEFC10X12.5
designator C?, comment 680uF  (value not drawn)
CAP ALUM 680UF 20% 16V RADIAL; Part Number: 16ZLS680MEFC10X12.5; Manufacturer: Rubycon; TemperatureRange: -40C ~ 105C; Type: Polar; Ripple Current: 682mA; Impedance: 45 mOhm; Value: 680uF; PartId: 24978; Supplier 1: Digi-Key; Supplier Part Number 1: 1189-2572-ND; ComponentLink1Description: Datasheet; ComponentLink1URL: http://www.rubycon.co.jp/en/catalog/e_pdfs/aluminum/e_zls.pdf; ComponentLink2Description: Digi-Key Listing; ComponentLink2URL: https://www.digikey.com/product-detail/en/rubycon/16ZLS680MEFC10X12.5/1189-2572-ND/4977119; Tolerance: 20%; Voltage: 16V; Price: 0.54; Device Package: Radial, Can, 10mm
footprint CAP AL TH D10 L5 H14.5
pins: 1, 2

## 16ZLS1000MEFC10X16
designator C?, comment 1000uF  (value not drawn)
CAP ALUM 1000UF 20% 16V RADIAL; Part Number: 16ZLS1000MEFC10X16; Manufacturer: Rubycon; TemperatureRange: -40C ~ 105C; Type: Polar; Ripple Current: 990mA; Impedance: 32 mOhm; Value: 1000uF; PartId: 25281; Supplier 1: Digi-Key; Supplier Part Number 1: 1189-2574-ND; ComponentLink1Description: Datasheet; ComponentLink1URL: http://www.rubycon.co.jp/en/catalog/e_pdfs/aluminum/e_zls.pdf; ComponentLink2Description: Digi-Key Listing; ComponentLink2URL: https://www.digikey.com/product-detail/en/rubycon/16ZLS1000MEFC10X16/1189-2574-ND/4977121; Tolerance: 20%; Voltage: 16V; Price: 0.62; Device Package: Radial, Can, 10mm
footprint CAP AL TH D10 L5 H17.5
pins: 1, 2

## 16ZLS1500MEFC10X20
designator C?, comment 1500uF  (value not drawn)
CAP ALUM 1500UF 20% 16V RADIAL; Part Number: 16ZLS1500MEFC10X20; Manufacturer: Rubycon; TemperatureRange: -40C ~ 105C; Type: Polar; Ripple Current: 1.176A; Impedance: 20 mOhm; Value: 1500uF; PartId: 25946; Supplier 1: Digi-Key; Supplier Part Number 1: 1189-2575-ND; ComponentLink1Description: Datasheet; ComponentLink1URL: http://www.rubycon.co.jp/en/catalog/e_pdfs/aluminum/e_zls.pdf; ComponentLink2Description: Digi-Key Listing; ComponentLink2URL: https://www.digikey.com/product-detail/en/rubycon/16ZLS1500MEFC10X20/1189-2575-ND/4977122; Tolerance: 20%; Voltage: 16V; Price: 0.75; Device Package: Radial, Can, 10mm
footprint CAP AL TH D10 L5 H22
pins: 1, 2

## 16ZLS1800MEFC10X23
designator C?, comment 1800uF  (value not drawn)
CAP ALUM 1800UF 20% 16V RADIAL; Part Number: 16ZLS1800MEFC10X23; Manufacturer: Rubycon; TemperatureRange: -40C ~ 105C; Type: Polar; Ripple Current: 1.35A; Impedance: 18 mOhm; Value: 1800uF; PartId: 26100; Supplier 1: Digi-Key; Supplier Part Number 1: 1189-2576-ND; ComponentLink1Description: Datasheet; ComponentLink1URL: http://www.rubycon.co.jp/en/catalog/e_pdfs/aluminum/e_zls.pdf; ComponentLink2Description: Digi-Key Listing; ComponentLink2URL: https://www.digikey.com/product-detail/en/rubycon/16ZLS1800MEFC10X23/1189-2576-ND/4977123; Tolerance: 20%; Voltage: 16V; Price: 0.75; Device Package: Radial, Can, 10mm
footprint CAP AL TH D10 L5 H30
pins: 1, 2

## 16ZLS2200MEFC10X25
designator C?, comment 2200uF  (value not drawn)
CAP ALUM 2200UF 20% 16V RADIAL; Part Number: 16ZLS2200MEFC10X25; Manufacturer: Rubycon; TemperatureRange: -40C ~ 105C; Type: Polar; Ripple Current: 1.75A; Impedance: 17 mOhm; Value: 2200uF; PartId: 26145; Supplier 1: Digi-Key; Supplier Part Number 1: 1189-2577-ND; ComponentLink1Description: Datasheet; ComponentLink1URL: http://www.rubycon.co.jp/en/catalog/e_pdfs/aluminum/e_zls.pdf; ComponentLink2Description: Digi-Key Listing; ComponentLink2URL: https://www.digikey.com/product-detail/en/rubycon/16ZLS2200MEFC10X25/1189-2577-ND/4977124; Tolerance: 20%; Voltage: 16V; Price: 0.84; Device Package: Radial, Can, 10mm
footprint CAP AL TH D10 L5 H30
pins: 1, 2

## 16ZLS2200MEFC12.5X20
designator C?, comment 2200uF  (value not drawn)
CAP ALUM 2200UF 20% 16V RADIAL; Part Number: 16ZLS2200MEFC12.5X20; Manufacturer: Rubycon; TemperatureRange: -40C ~ 105C; Type: Polar; Ripple Current: 1.736A; Impedance: 17 mOhm; Value: 2200uF; PartId: 23373; Supplier 1: Digi-Key; Supplier Part Number 1: 1189-2578-ND; ComponentLink1Description: Datasheet; ComponentLink1URL: http://www.rubycon.co.jp/en/catalog/e_pdfs/aluminum/e_zls.pdf; ComponentLink2Description: Digi-Key Listing; ComponentLink2URL: https://www.digikey.com/product-detail/en/rubycon/16ZLS2200MEFC12.5X20/1189-2578-ND/4977125; Tolerance: 20%; Voltage: 16V; Price: 0.9; Device Package: Radial, Can, 12.5mm
footprint CAP AL TH D12.5 L5 H22
pins: 1, 2

## 16ZLS2700MEFC12.5X25
designator C?, comment 2700uF  (value not drawn)
CAP ALUM 2700UF 20% 16V RADIAL; Part Number: 16ZLS2700MEFC12.5X25; Manufacturer: Rubycon; TemperatureRange: -40C ~ 105C; Type: Polar; Ripple Current: 2.03A; Impedance: 15 mOhm; Value: 2700uF; PartId: 23980; Supplier 1: Digi-Key; Supplier Part Number 1: 1189-2579-ND; ComponentLink1Description: Datasheet; ComponentLink1URL: http://www.rubycon.co.jp/en/catalog/e_pdfs/aluminum/e_zls.pdf; ComponentLink2Description: Digi-Key Listing; ComponentLink2URL: https://www.digikey.com/product-detail/en/rubycon/16ZLS2700MEFC12.5X25/1189-2579-ND/4977126; Tolerance: 20%; Voltage: 16V; Price: 1.03; Device Package: Radial, Can, 12.5mm
footprint CAP AL TH D12.5 L5 H27
pins: 1, 2

## 16ZLS3300MEFC12.5X30
designator C?, comment 3300uF  (value not drawn)
CAP ALUM 3300UF 20% 16V RADIAL; Part Number: 16ZLS3300MEFC12.5X30; Manufacturer: Rubycon; TemperatureRange: -40C ~ 105C; Type: Polar; Ripple Current: 2.415A; Impedance: 13 mOhm; Value: 3300uF; PartId: 24295; Supplier 1: Digi-Key; Supplier Part Number 1: 1189-2580-ND; ComponentLink1Description: Datasheet; ComponentLink1URL: http://www.rubycon.co.jp/en/catalog/e_pdfs/aluminum/e_zls.pdf; ComponentLink2Description: Digi-Key Listing; ComponentLink2URL: https://www.digikey.com/product-detail/en/rubycon/16ZLS3300MEFC12.5X30/1189-2580-ND/4977127; Tolerance: 20%; Voltage: 16V; Price: 1.16; Device Package: Radial, Can, 12.5mm
footprint CAP AL TH D12.5 L5 H35.5
pins: 1, 2

## 25PK680MEFC10X12.5
designator C?, comment 680uF  (value not drawn)
CAP ALUM 680UF 20% 25V RADIAL; Part Number: 25PK680MEFC10X12.5; Manufacturer: Rubycon; TemperatureRange: -40C ~ 85C; Ripple Current: 780mA; Value: 680uF; PartId: 24905; Supplier 1: Digi-Key; Supplier Part Number 1: 1189-1222-ND; ComponentLink1Description: Datasheet; ComponentLink1URL: http://www.rubycon.co.jp/en/catalog/e_pdfs/aluminum/e_pk.pdf; ComponentLink2Description: Digi-Key Listing; ComponentLink2URL: https://www.digikey.com/product-detail/en/rubycon/25PK680MEFC10X12.5/1189-1222-ND/3134178; Tolerance: 20%; Voltage: 25V; Price: 0.49; Device Package: Radial, Can, 10mm
footprint CAP AL TH D10 L5 H14.5
pins: 1, 2

## 25PK1000MEFC10X16
designator C?, comment 1000uF  (value not drawn)
CAP ALUM 1000UF 20% 25V RADIAL; Part Number: 25PK1000MEFC10X16; Manufacturer: Rubycon; TemperatureRange: -40C ~ 85C; Ripple Current: 870mA; Value: 1000uF; PartId: 25213; Supplier 1: Digi-Key; Supplier Part Number 1: 1189-1217-ND; ComponentLink1Description: Datasheet; ComponentLink1URL: http://www.rubycon.co.jp/en/catalog/e_pdfs/aluminum/e_pk.pdf; ComponentLink2Description: Digi-Key Listing; ComponentLink2URL: https://www.digikey.com/product-detail/en/rubycon/25PK1000MEFC10X16/1189-1217-ND/3134173; Tolerance: 20%; Voltage: 25V; Price: 0.52; Device Package: Radial, Can, 10mm
footprint CAP AL TH D10 L5 H17.5
pins: 1, 2

## 25PK2200MEFC12.5X20
designator C?, comment 2200uF  (value not drawn)
CAP ALUM 2200UF 20% 25V RADIAL; Part Number: 25PK2200MEFC12.5X20; Manufacturer: Rubycon; TemperatureRange: -40C ~ 85C; Ripple Current: 1.5A; Value: 2200uF; PartId: 22956; Supplier 1: Digi-Key; Supplier Part Number 1: 1189-1731-ND; ComponentLink1Description: Datasheet; ComponentLink1URL: http://www.rubycon.co.jp/en/catalog/e_pdfs/aluminum/e_pk.pdf; ComponentLink2Description: Digi-Key Listing; ComponentLink2URL: https://www.digikey.com/product-detail/en/rubycon/25PK2200MEFC12.5X20/1189-1731-ND/3564008; Tolerance: 20%; Voltage: 25V; Price: 0; Device Package: Radial, Can, 12.5mm
footprint CAP AL TH D12.5 L5 H21.5
pins: 1, 2

## 25PX680MEFC10X12.5
designator C?, comment 680uF  (value not drawn)
CAP ALUM 680UF 20% 25V RADIAL; Part Number: 25PX680MEFC10X12.5; Manufacturer: Rubycon; TemperatureRange: -55C ~ 105C; Type: Polar; Ripple Current: 630mA; Value: 680uF; PartId: 24799; Supplier 1: Digi-Key; Supplier Part Number 1: 1189-1229-ND; ComponentLink1Description: Datasheet; ComponentLink1URL: http://www.rubycon.co.jp/en/catalog/e_pdfs/aluminum/e_px.pdf; ComponentLink2Description: Digi-Key Listing; ComponentLink2URL: https://www.digikey.com/product-detail/en/rubycon/25PX680MEFC10X12.5/1189-1229-ND/3134185; Tolerance: 20%; Voltage: 25V; Price: 0.45; Device Package: Radial, Can, 10mm
footprint CAP AL TH D10 L5 H14.5
pins: 1, 2

## 25PX1000MEFC10X16
designator C?, comment 1000uF  (value not drawn)
CAP ALUM 1000UF 20% 25V RADIAL; Part Number: 25PX1000MEFC10X16; Manufacturer: Rubycon; TemperatureRange: -55C ~ 105C; Type: Polar; Ripple Current: 740mA @ 120Hz; Value: 1000uF; PartId: 25377; Supplier 1: Digi-Key; Supplier Part Number 1: 1189-3681-ND; ComponentLink1Description: Datasheet; ComponentLink1URL: http://www.rubycon.co.jp/en/catalog/e_pdfs/aluminum/e_px.pdf; ComponentLink2Description: Digi-Key Listing; ComponentLink2URL: https://www.digikey.com/product-detail/en/rubycon/25PX1000MEFC10X16/1189-3681-ND/3563675; Tolerance: 20%; Voltage: 25V; Price: 0.73; Device Package: Radial, Can, 10mm
footprint CAP AL TH D10 L5 H17.5
pins: 1, 2

## 25PX1000MEFCT810X16
designator C?, comment 1000uF  (value not drawn)
CAP ALUM 1000UF 20% 25V RADIAL; Part Number: 25PX1000MEFCT810X16; Manufacturer: Rubycon; TemperatureRange: -55C ~ 105C; Type: Polar; Ripple Current: 740mA; Value: 1000uF; PartId: 25044; Supplier 1: Digi-Key; Supplier Part Number 1: 1189-1583-3-ND; ComponentLink1Description: Datasheet; ComponentLink1URL: http://www.rubycon.co.jp/en/catalog/e_pdfs/aluminum/e_px.pdf; ComponentLink2Description: Digi-Key Listing; ComponentLink2URL: https://www.digikey.com/product-detail/en/rubycon/25PX1000MEFCT810X16/1189-1583-3-ND/3134863; Tolerance: 20%; Voltage: 25V; Price: 0.1922; Device Package: Radial, Can, 10mm
footprint CAP AL TH D10 L5 H17.5
pins: 1, 2